# Altium schematic symbol library SnapEDAsch.SchLib: 1 symbol
Pins are listed as number, name and electrical type; pins without a type are passive.

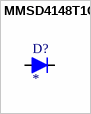
[diagram p0: symbol MMSD4148T1G]

## MMSD4148T1G
designator D?
DIODE GEN PURP 100V 200MA SOD123; MF: ON Semiconductor; MP: MBR0520L; SnapEDA_Link: https://www.snapeda.com/parts/MBR0520L/ON%20Semiconductor/view-part/1413138/?ref=snap; Price: None; Availability: Unavailable; Package: SOD-123 ON Semiconductor; Value: *
footprint SOD123
pins: A, C